# Altium schematic symbol library STMF303RE-NUCLEO.SchLib: 1 symbol
Pins are listed as number, name and electrical type; pins without a type are passive.

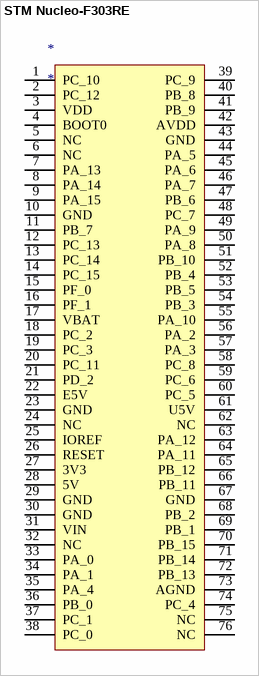
[diagram p0: symbol STM Nucleo-F303RE]

## STM Nucleo-F303RE
designator *
footprint Nucleo MORPHO CONNECTORS (STM32F401RE Nucleo - Morpho Connectors)
pins: 1 PC_10, 2 PC_12, 3 VDD, 4 BOOT0, 5 NC, 6 NC, 7 PA_13, 8 PA_14, 9 PA_15, 10 GND, 11 PB_7, 12 PC_13, 13 PC_14, 14 PC_15, 15 PF_0, 16 PF_1, 17 VBAT, 18 PC_2, 19 PC_3, 20 PC_11, 21 PD_2, 22 E5V, 23 GND, 24 NC, 25 IOREF, 26 RESET, 27 3V3, 28 5V, 29 GND, 30 GND, 31 VIN, 32 NC, 33 PA_0, 34 PA_1, 35 PA_4, 36 PB_0, 37 PC_1, 38 PC_0, 39 PC_9, 40 PB_8, 41 PB_9, 42 AVDD, 43 GND, 44 PA_5, 45 PA_6, 46 PA_7, 47 PB_6, 48 PC_7, 49 PA_9, 50 PA_8, 51 PB_10, 52 PB_4, 53 PB_5, 54 PB_3, 55 PA_10, 56 PA_2, 57 PA_3, 58 PC_8, 59 PC_6, 60 PC_5, 61 U5V, 62 NC, 63 PA_12, 64 PA_11, 65 PB_12, 66 PB_11, 67 GND, 68 PB_2, 69 PB_1, 70 PB_15, 71 PB_14, 72 PB_13, 73 AGND, 74 PC_4, 75 NC, 76 NC